# EAGLE library part MCP2515 (library evansLibrary)
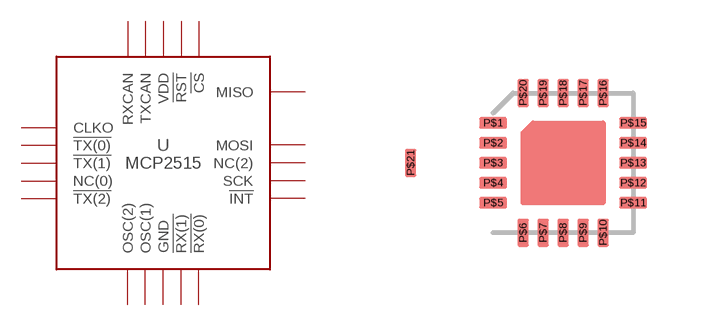
[diagram p0: symbol with the pads of E_QFN20; footprint E_QFN20]

Designator prefix -

## MCP2515-QFN20  [E_QFN20]
P$1  CLKO
P$2  !TX(0)
P$3  !TX(1)
P$4  NC(0)
P$5  !TX(2)
P$6  OSC(2)
P$7  OSC(1)
P$8  GND
P$9  !RX(1)
P$10  !RX(0)
P$11  !INT
P$12  SCK
P$13  NC(2)
P$14  MOSI
P$15  MISO
P$16  !CS
P$17  !RST
P$18  VDD
P$19  TXCAN
P$20  RXCAN

## Footprint E_QFN20 (pad centres in mm)
smd 0.7 x 0.28: P$1 -1.75,1; P$2 -1.75,0.5; P$3 -1.75,0; P$4 -1.75,-0.5; P$5 -1.75,-1; P$11 1.75,-1; P$12 1.75,-0.5; P$13 1.75,0; P$14 1.75,0.5; P$15 1.75,1
smd 0.28 x 0.7: P$6 -1,-1.75; P$7 -0.5,-1.75; P$8 0,-1.75; P$9 0.5,-1.75; P$10 1,-1.75; P$16 1,1.75; P$17 0.5,1.75; P$18 0,1.75; P$19 -0.5,1.75; P$20 -1,1.75; P$21 -3.81,0